# Altium footprint library ElectrolyticCapacitor.PcbLib: 6 footprints
Each footprint in its own frame and in the unit in brackets; x right, y up, seen from the top. Pads: shape width x height; smd on the part's side, far side on the other; paste and mask are expansions set on the pad; w line width, h text height; cw(c..) or ccw(c..) is an arc to the next point about the centre after c.
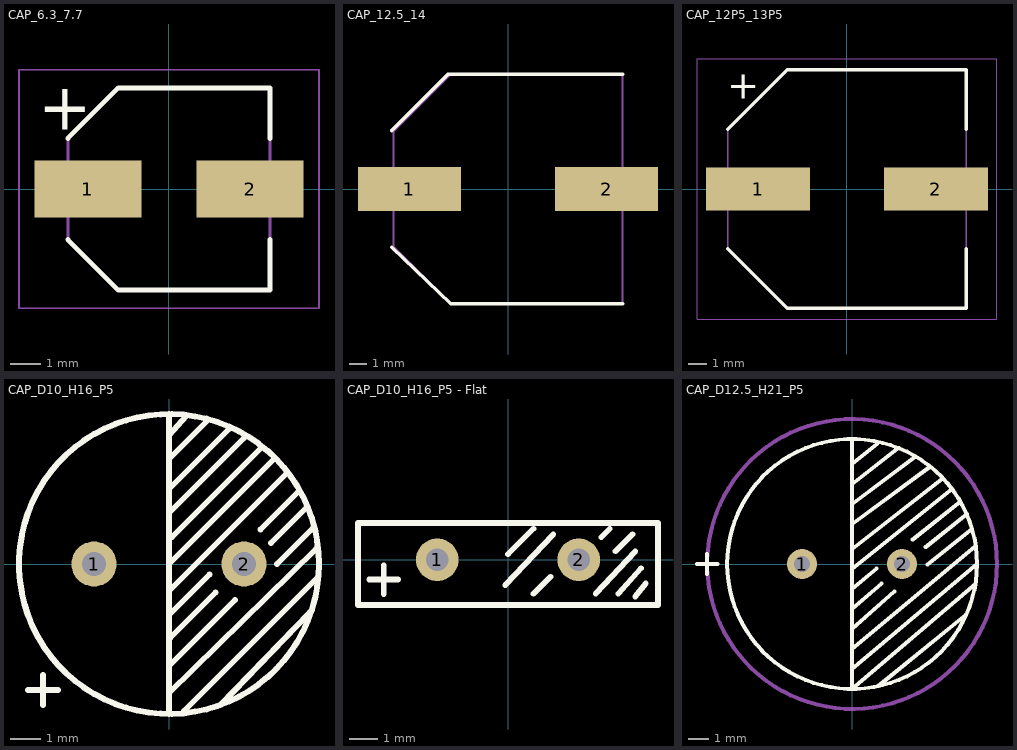
[diagram p0: the footprints below, top view; thin cyan lines are the x and y axes]

## CAP_6.3_7.7 [mm]
pads (2):
  rect 3.5x1.85 smd: 1(-2.65,0) 2(2.65,0)
Top Overlay:
  lines w0.152: -3.302,-1.651 -1.651,-3.302 3.302,-3.302 3.302,-1.651 ; -3.302,1.651 -1.651,3.302 3.302,3.302 3.302,1.651
  text "+" at -4.279,1.93 h1.52
Mechanical 13:
  lines w0.1: -3.3,-1.65 -1.65,-3.3 3.3,-3.3 3.3,3.3 -1.65,3.3 -3.3,1.65 -3.3,-1.65
Mechanical 15:
  lines w0.05: -4.9,-3.9 -4.9,3.9 4.9,3.9 4.9,-3.9 -4.9,-3.9
3D body "UWT1V101MCL1GS.stp": height 8, standoff 0, extent -3.7,-3.4 3.7,3.4

## CAP_12.5_14 [mm]
pads (2):
  rect 5.75x2.45 smd: 1(-5.5,0) 2(5.5,0)
Top Overlay:
  lines w0.2: -6.5,-3.25 -3.2,-6.4 6.4,-6.4 ; -6.5,3.25 -3.35,6.4 -3.193,6.4 6.4,6.4
Mechanical 13:
  lines w0.1: -6.4,-3.2 -6.4,3.2 -3.2,6.4 6.4,6.4 6.4,-6.4 -3.2,-6.4 -6.4,-3.2
3D body "EDH107M100A9RAA.stp": height 14, standoff 0, extent -7.25,-6.5 7.75,6.5

## CAP_12P5_13P5 [mm] "SMD,D12.5xL13.5mm"
pads (2):
  rect 5.65x2.35 smd: 1(-4.85,0) 2(4.85,0)
Top Overlay:
  lines w0.2: -6.5,-3.25 -3.25,-6.5 6.5,-6.5 6.5,-3.25 ; -6.5,3.25 -3.25,6.5 6.5,6.5 6.5,3.25
  text "+" at -6.529,4.93 h1.52
Mechanical 13:
  lines w0.1: -6.5,-3.25 -3.25,-6.5 6.5,-6.5 6.5,6.5 -3.25,6.5 -6.5,3.25 -6.5,-3.25
Mechanical 15:
  lines w0.05: -8.175,-7.1 -8.175,7.1 8.175,7.1 8.175,-7.1 -8.175,-7.1
3D body "EMVY101ARA101MKE0S.stp": height 14, standoff 0, extent -6.95,-6.6 6.95,6.6

## CAP_D10_H16_P5 [mm]
pads (2):
  round 1.5 hole 0.8: 1(-2.5,0) 2(2.5,0)
Top Overlay:
  circle w0.2: c0,0 r5
  lines w0.2: -4.708,-4.2 -3.692,-4.2 ; -4.2,-4.708 -4.2,-3.692 ; 0,-5 0,5 0,0 3.5,3.5 ; 0,-4.3 4.9,0.5 ; 0,-3.4 2.2,-1.2 ; 0,-1.7 1.35,-0.35 ; 0,-0.9 3.9,3 ; 0,1.7 2.5,4.2 ; 0,3 0,2.5 2,4.5 ; 0,3.5 1.3,4.8 ; 0.006,4.295 0.575,4.934 ; 0.05,-2.45 1.55,-0.95 ; 0.1,0.9 3.1,3.9 ; 0.5,-4.9 4.95,-0.45 ; 1.707,-4.707 4.702,-1.602 ; 3.05,1.15 4.3,2.4 ; 3.4,0.7 4.6,1.9 ; 3.6,0 4.8,1.2
3D body "Aluminum_electrolytic_capacitor_radial_D10_H16_PinD0.6_Pitch5_nominal_red.step": height 16, standoff -3, extent -4.99,-4.995 5,4.995

## CAP_D10_H16_P5 - Flat [mm]
pads (2):
  round 1.5 hole 0.8: 1(-2.5,0) 2(2.5,0)
Top Overlay:
  lines w0.2: -4.9,-0.7 -3.884,-0.7 ; -4.392,-1.208 -4.392,-0.192 ; -0.1,-0.9 1.6,0.9 ; 0,0.2 0.9,1.1 ; 0.9,-1.2 1.5,-0.6 ; 3.1,-1.2 4.5,0.3 ; 3.3,0.8 3.6,1.1 ; 3.8,0.3 4.4,0.9 ; 3.9,-1.2 4.7,-0.3 ; 4.5,-1.3 4.868,-0.84 ; -5.3,-1.6 -5.3,1.3 5.3,1.3 5.3,-1.6 -5.3,-1.6
3D body "Aluminum_electrolytic_capacitor_radial_D10_H16_PinD0.6_Pitch5_nominal_red.step": height 10, standoff 0, extent -4.99,-18 5,1

## CAP_D12.5_H21_P5 [mm] "Through Hole Electrolytic Capacitor Diameter: 12.5mm ± 0.5mm, Height: 21mm ± 1.0mm, Pitch (Lead Spacing): 5mm ± 0.5mm"
pads (2):
  round 1.5 hole 0.8: 1(-2.5,0) 2(2.5,0)
Top Overlay:
  circle w0.2: c0,0 r6.25
  lines w0.2: -7.758,0 -6.742,0 ; -7.25,-0.508 -7.25,0.508 ; 0,-5.25 6.25,0 ; 0,-4.25 6,0.75 6.139,0.878 ; 0,-3.25 2.11,-1.374 ; 0,-2.25 1.482,-0.979 ; 0,-1.25 1.23,-0.225 ; 0,-0.25 5,3.75 ; 0,0.75 4.5,4.25 ; 0,2 3.897,4.857 ; 0,3 3.16,5.37 ; 0,4 2.25,5.75 ; 0,5 1.25,6 ; 0,6.25 0,-6.25 6.184,-0.987 ; 1.3,-6.115 5.705,-2.528 ; 3.025,1.218 5.414,3.114 ; 3.677,0.841 5.75,2.5 ; 3.774,-0.03 6,1.75
Mechanical 15:
  circle w0.2: c0,0 r7.25
3D body "EEUEB2D470.step": height 20, standoff -17, extent -6.233,-6.25 6.25,6.25